# Altium footprint library TO-277.PcbLib: 1 footprints
Each footprint in its own frame and in the unit in brackets; x right, y up, seen from the top. Pads: shape width x height; smd on the part's side, far side on the other; paste and mask are expansions set on the pad; w line width, h text height; cw(c..) or ccw(c..) is an arc to the next point about the centre after c.
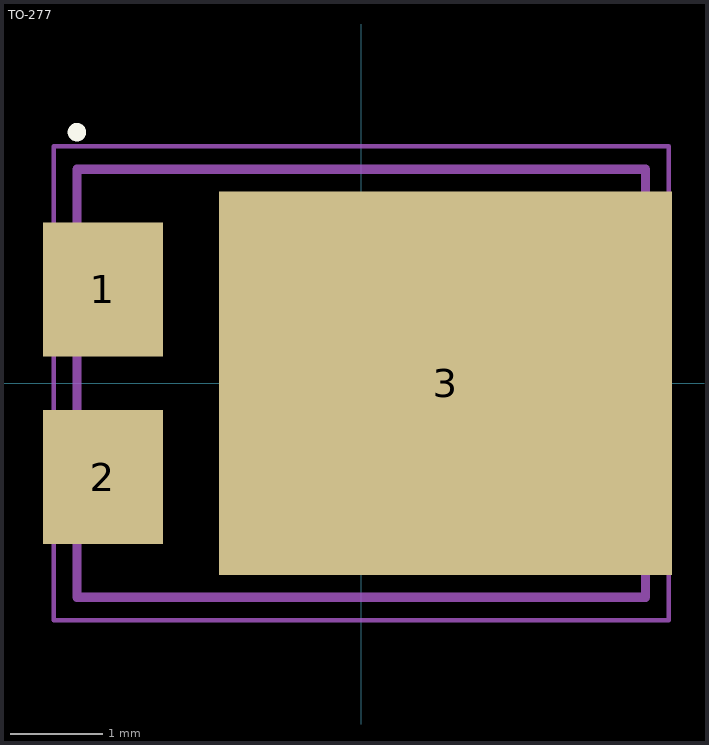
[diagram p0: the footprint, top view; thin cyan lines are the x and y axes]

## TO-277 [mm] "DFN, 3-Leads, Body 4.44x5.91mm, Pitch 3.68mm, IPC Medium Density, FSV20100V"
height 1.2
pads (3):
  rect 1.3x1.45 smd: 1(-2.794,1.016) 2(-2.794,-1.016)
  rect 4.9x4.15 smd: 3(0.913,0)
Top Overlay:
  circle w0.1: c-3.075,2.715 r0.05
Mechanical 13:
  lines w0.1: -3.075,-2.315 -3.075,2.315 3.075,2.315 3.075,-2.315 -3.075,-2.315
Mechanical 15:
  lines w0.05: -3.325,-2.565 -3.325,2.565 3.325,2.565 3.325,-2.565 -3.325,-2.565
  lines w0.1: -0.5,0 0.5,0 ; 0,-0.5 0,0.5
3D body: height 1.2, standoff 1.2, extent -3.075,-2.315 3.075,2.315
3D body: height 1.2, standoff 0, extent -3.302,-2.286 3.556,2.286